# EAGLE library part 6270XX20621_62701220621 (library WR-BHD)
WR-BHD 1.27 mm Male Characteristics Working Voltage: 250 V Operating Temperature : -40°C up to 105°C UL approval: E323964 UL94-V0 Applications Industrial Production lines Details see: www.we-online.com/components/products/WTB_WR_BHD_BOX_HEADER_1_27MM_MALE Updated by Ella 2026-09-16 2026 (C) Würth Elektronik
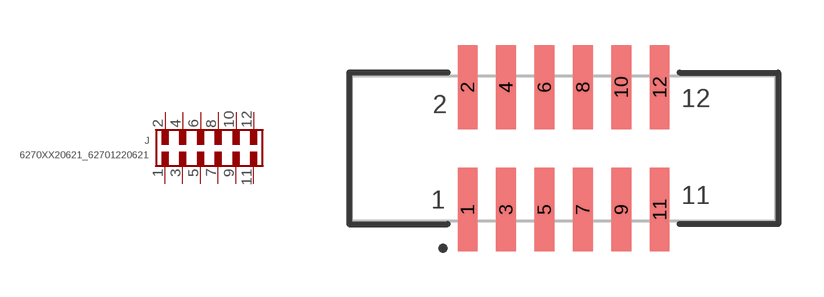
[diagram p77: symbol with the pads of 62701220621; footprint 62701220621]

Designator prefix J

## 6270XX20621_62701220621 (CATEGORY: Connectors; DATASHEET: https://www.we-online.com/redexpert/spec/62701220621?ae; GENDER: Male; LENGTH: 13.97 mm; MANUFACTURER: Würth Elektronik; MOUNT: SMT; MPN: 62701220621; OPERATING_TEMPERATURE: -40 °C up to +105 °C; PACKAGING: Tube; PINS: 12; PITCH: 1.27mm; RATED_CURRENT: 1 A; SIZE: SMT Straight; TYPE: Straight; VALUE: 62701220621)  [62701220621]
1  1  pas
2  2  pas
3  3  pas
4  4  pas
5  5  pas
6  6  pas
7  7  pas
8  8  pas
9  9  pas
10  10  pas
11  11  pas
12  12  pas

## Footprint 62701220621 (pad centres in mm)
WR-BHD Wire-to-Board Connectors, 1.27mm, Male, SMT Straight, 12pins
smd 0.65 x 2.76: 1 -3.175,-2.02; 2 -3.175,2.02; 3 -1.905,-2.02; 4 -1.905,2.02; 5 -0.635,-2.02; 6 -0.635,2.02; 7 0.635,-2.02; 8 0.635,2.02; 9 1.905,-2.02; 10 1.905,2.02; 11 3.175,-2.02; 12 3.175,2.02